# Altium footprint library SOP-16.PcbLib: 1 footprints
Each footprint in its own frame and in the unit in brackets; x right, y up, seen from the top. Pads: shape width x height; smd on the part's side, far side on the other; paste and mask are expansions set on the pad; w line width, h text height; cw(c..) or ccw(c..) is an arc to the next point about the centre after c.
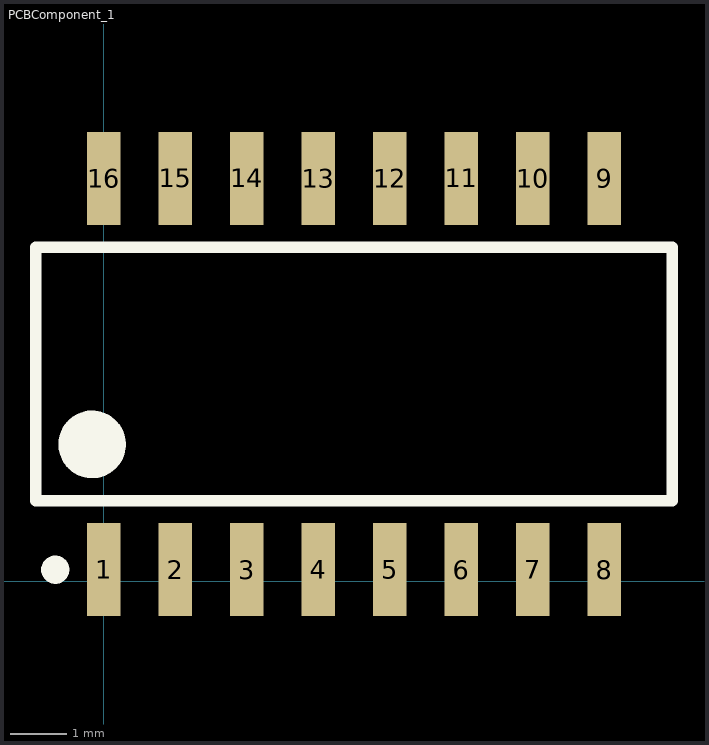
[diagram p0: the footprint, top view; thin cyan lines are the x and y axes]

## PCBComponent_1 [mm]
pads (16):
  rect 0.6x1.65 smd: 1(0,0.208) 2(1.27,0.208) 3(2.54,0.208) 4(3.81,0.208) 5(5.08,0.208) 6(6.35,0.208) 7(7.62,0.208) 8(8.89,0.208) 9(8.89,7.158) 10(7.62,7.158) 11(6.35,7.158) 12(5.08,7.158) 13(3.81,7.158) 14(2.54,7.158) 15(1.27,7.158) 16(0,7.158)
Top Overlay:
  circle w0.6: c-0.205,2.433 r0.3
  circle w0.25: c-0.86,0.208 r0.125
  lines w0.2: -1.205,1.433 10.095,1.433 10.095,5.933 -1.205,5.933 -1.205,3.048 -1.205,1.433